# Altium schematic symbol library RC0603FR-0780K6L.SchLib: 1 symbol
Pins are listed as number, name and electrical type; pins without a type are passive.

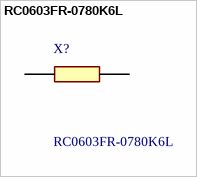
[diagram p0: symbol RC0603FR-0780K6L]

## RC0603FR-0780K6L
designator X?
80.6k 0603 Thick Film Surface Mount Resistor +/-1% 0.1W RC0603FR-0780K6L; Manufacturer_Name: Yageo Group; Geometry.Height: 0.55mm; Mouser Part Number: 603-RC0603FR-0780K6L; Mouser Price/Stock: http://www.mouser.com/Search/ProductDetail.aspx?qs=2cAdsCoAWRG3QkcZUx%252bK3g%3d%3d; Manufacturer_Part_Number: RC0603FR-0780K6L; Datasheet Link: https://componentsearchengine.com/Datasheets/1/RC0603FR-0780K6L.pdf
footprint RESC1608X55N
pins: 1, 2